# Altium footprint library 1860280.PcbLib: 1 footprints
Each footprint in its own frame and in the unit in brackets; x right, y up, seen from the top. Pads: shape width x height; smd on the part's side, far side on the other; paste and mask are expansions set on the pad; w line width, h text height; cw(c..) or ccw(c..) is an arc to the next point about the centre after c.
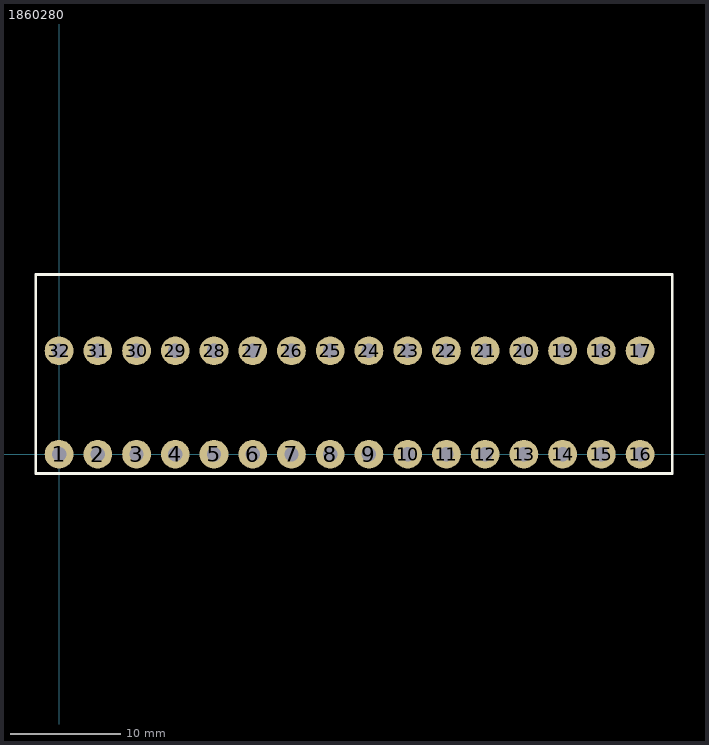
[diagram p0: the footprint, top view; thin cyan lines are the x and y axes]

## 1860280 [mm] "PCB terminal block-Number of rows: 2, Number of positions per row: 16"
pads (32):
  round 2.6 hole 1.3: 1(0,0) 2(3.5,0) 3(7,0) 4(10.5,0) 5(14,0) 6(17.5,0) 7(21,0) 8(24.5,0) 9(28,0) 10(31.5,0) 11(35,0) 12(38.5,0) 13(42,0) 14(45.5,0) 15(49,0) 16(52.5,0) 17(52.5,9.35) 18(49,9.35) 19(45.5,9.35) 20(42,9.35) 21(38.5,9.35) 22(35,9.35) 23(31.5,9.35) 24(28,9.35) 25(24.5,9.35) 26(21,9.35) 27(17.5,9.35) 28(14,9.35) 29(10.5,9.35) 30(7,9.35) 31(3.5,9.35) 32(0,9.35)
Top Overlay:
  lines w0.254: -2.1,-1.75 55.4,-1.75 55.4,16.25 -2.1,16.25 -2.1,-1.75
3D body: height 24.2, standoff 0, extent -2.1,-1.75 55.4,16.25